# Altium footprint library FET.PcbLib: 2 footprints
Each footprint in its own frame and in the unit in brackets; x right, y up, seen from the top. Pads: shape width x height; smd on the part's side, far side on the other; paste and mask are expansions set on the pad; w line width, h text height; cw(c..) or ccw(c..) is an arc to the next point about the centre after c.
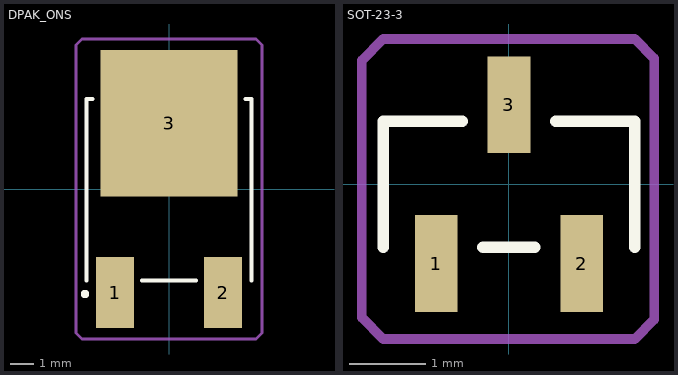
[diagram p0: the footprints below, top view; thin cyan lines are the x and y axes]

## DPAK_ONS [mil]
pads (3):
  rect 63x118 smd: 1(-90,-172.5) 2(90,-172.5)
  rect 228x244 smd: 3(0,109.5)
Top Overlay:
  circle w10: c-140,-175 r2
  lines w6: -137.5,-152.5 -137.5,150 -127.1,150 ; -45.4,-152.5 45.4,-152.5 ; 127.1,150 137.5,150 137.5,-152.5
Boundaries:
  lines w5: -155,-240 -155,240 -145,250 145,250 155,240 155,-240 145,-250 -145,-250 -155,-240
Mechanical 13:
  circle w0: c-112.5,-200 r5
3D body: height 10, standoff 0, extent 0,0 10,10
3D body "IRFR5305TRPBF_INF.step": height 94.09, standoff -2.01, extent -128.5,-156.41 128.51,160.12

## SOT-23-3 [mil]
pads (3):
  rect 22x50 smd paste+0 mask+4: 1(-37.5,-41) 2(37.5,-41) 3(0,41)
Top Overlay:
  lines w6: -65,-32.5 -65,32.5 -24.1,32.5 ; -13.4,-32.5 13.4,-32.5 ; 24.1,32.5 65,32.5 65,-32.5
Boundaries:
  lines w5: -76,-69 -76,64 -65,75 65,75 75,65 75,-70 65,-80 -65,-80 -76,-69
Mechanical 13:
  lines w1: -47.5,-52 -27.5,-52 -27.5,-27.5 -47.5,-27.5 -47.5,-52 ; -10,27.5 -10,52 10,52 10,27.5 -10,27.5 ; 27.5,-52 47.5,-52 47.5,-27.5 27.5,-27.5 27.5,-52
3D body "SOT-23_3L_ONS.step": height 44.09, standoff 0, extent -60,-52 60,52.01